# Altium footprint library 2020-04-08_20-27-17.PcbLib: 1 footprints
Each footprint in its own frame and in the unit in brackets; x right, y up, seen from the top. Pads: shape width x height; smd on the part's side, far side on the other; paste and mask are expansions set on the pad; w line width, h text height; cw(c..) or ccw(c..) is an arc to the next point about the centre after c.
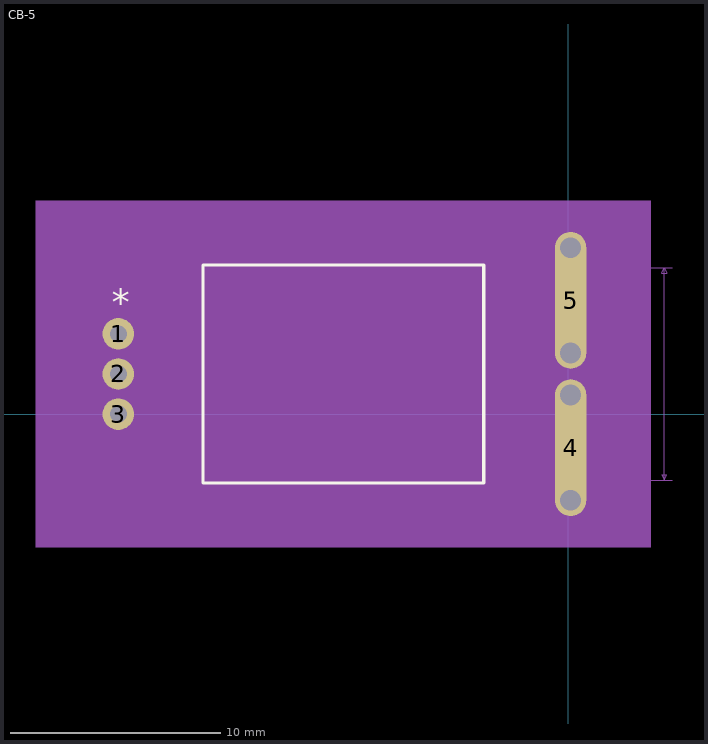
[diagram p0: the footprint, top view; thin cyan lines are the x and y axes]

## CB-5 [mil]
pads (9):
  round 59 hole 32 mask+0: 1(-842.52,150.39) 2(-842.52,75.2) 3(-842.52,0)
  oval 59x256 hole 1 mask+0: 4(4.28,-62.6) 5(4.28,212.99)
  round 39 hole 39: S_3_H1(4.28,311.49) S_3_H2(4.28,114.49) S_4_H1(4.28,35.9) S_4_H2(4.28,-161.1)
Top Overlay:
  lines w6: -684.26,-128.8 -684.26,279.2 -158.26,279.2 -158.26,-128.8 -684.26,-128.8
  text "*" at -855.02,184.89 h50
Mechanical 5:
  region: 154.5,-248.8 -997.02,-248.8 -997.02,399.2 154.5,399.2
Mechanical 7:
  lines w1: -987.02,75.2 -842.52,75.2 ; -987.02,150.39 -842.52,150.39 ; -972.02,25.2 -972.02,75.2 ; -972.02,200.39 -972.02,150.39 ; -842.52,-188.8 -842.52,37.6 ; -679.26,274.2 -679.26,339.2 ; -421.26,-123.8 194.5,-123.8 ; -421.26,274.2 194.5,274.2 ; -163.26,274.2 -163.26,339.2 ; 0,-188.8 0,37.6 ; 0,-62.6 94.5,-62.6 ; 0,212.99 94.5,212.99 ; -972.02,75.2 -967.02,65.2 -977.02,65.2 -972.02,75.2 ; -972.02,150.39 -967.02,160.39 -977.02,160.39 -972.02,150.39 ; -842.52,-173.8 -832.52,-178.8 -832.52,-168.8 -842.52,-173.8 ; -842.52,-173.8 0,-173.8 ; -679.26,324.2 -669.26,319.2 -669.26,329.2 -679.26,324.2 ; -679.26,324.2 -163.26,324.2 ; -163.26,324.2 -173.26,319.2 -173.26,329.2 -163.26,324.2 ; 0,-173.8 -10,-178.8 -10,-168.8 0,-173.8 ; 79.5,-62.6 84.5,-52.6 74.5,-52.6 79.5,-62.6 ; 79.5,-62.6 79.5,212.99 ; 79.5,212.99 84.5,202.99 74.5,202.99 79.5,212.99 ; 179.5,-123.8 184.5,-113.8 174.5,-113.8 179.5,-123.8 ; 179.5,-123.8 179.5,274.2 ; 179.5,274.2 184.5,264.2 174.5,264.2 179.5,274.2
  text "0.398in/10.109mm" at 199.5,62.7 h25
  text "0.516in/13.106mm" at -521.26,344.2 h25
  text "0.843in/21.4mm" at -508.76,-218.8 h25
  text "0.276in/7mm" at 99.5,62.7 h25
  text "0.075in/1.91mm" at -1167.02,100.3 h25
  text "Alt 2 Padstyle: OX90Y60D30P" at -758.76,-573.8 h50
  text "Alt 1 Padstyle: OX60Y90D30P" at -758.76,-513.8 h50
  text "Right Padstyle: EX118Y60D39P" at -771.26,-443.8 h50
  text "Left Padstyle: EX59Y59D32P" at -746.26,-383.8 h50
Mechanical 13:
  lines w0: -433.26,274.2 ccw(c-421.26,274.2) -409.26,274.2
  lines w1: -858.52,-16 -679.26,-16 -679.26,16 -858.52,16 -858.52,-16 ; -858.52,59.2 -679.26,59.2 -679.26,91.2 -858.52,91.2 -858.52,59.2 ; -858.52,134.39 -679.26,134.39 -679.26,166.39 -858.52,166.39 -858.52,134.39 ; -679.26,-123.8 -679.26,274.2 -163.26,274.2 -163.26,-123.8 -679.26,-123.8 ; -163.26,-78.6 16,-78.6 16,-46.6 -163.26,-46.6 -163.26,-78.6 ; -163.26,196.99 16,196.99 16,228.99 -163.26,228.99 -163.26,196.99
  text "*" at -676.76,125.39 h50
Mechanical 15:
  region: -153.26,-190.39 39.5,-190.39 39.5,340.79 -153.26,340.79 -153.26,284.2 -689.26,284.2 -689.26,177.99 -882.02,177.99 -882.02,-27.6 -689.26,-27.6 -689.26,-133.8 -153.26,-133.8
  lines w6: -153.26,-190.39 39.5,-190.39 39.5,340.79 -153.26,340.79 ; -153.26,10 -153.26,-133.8 -689.26,-133.8 -689.26,-27.6 -882.02,-27.6 -882.02,177.99 -689.26,177.99 -689.26,284.2 -153.26,284.2 -153.26,140.39
Multi-Layer:
  lines w39: 4.28,-161.1 4.28,35.9 ; 4.28,114.49 4.28,311.49
3D body "User Library-ACS759xCB.STEP": height 413.89, standoff 0.5, extent -851.45,-195.59 28.08,355.59
3D body: height 10, standoff 0, extent 0,0 10,10